# Altium schematic symbol library IC USB.SchLib: 34 symbols
Pins are listed as number, name and electrical type; pins without a type are passive.

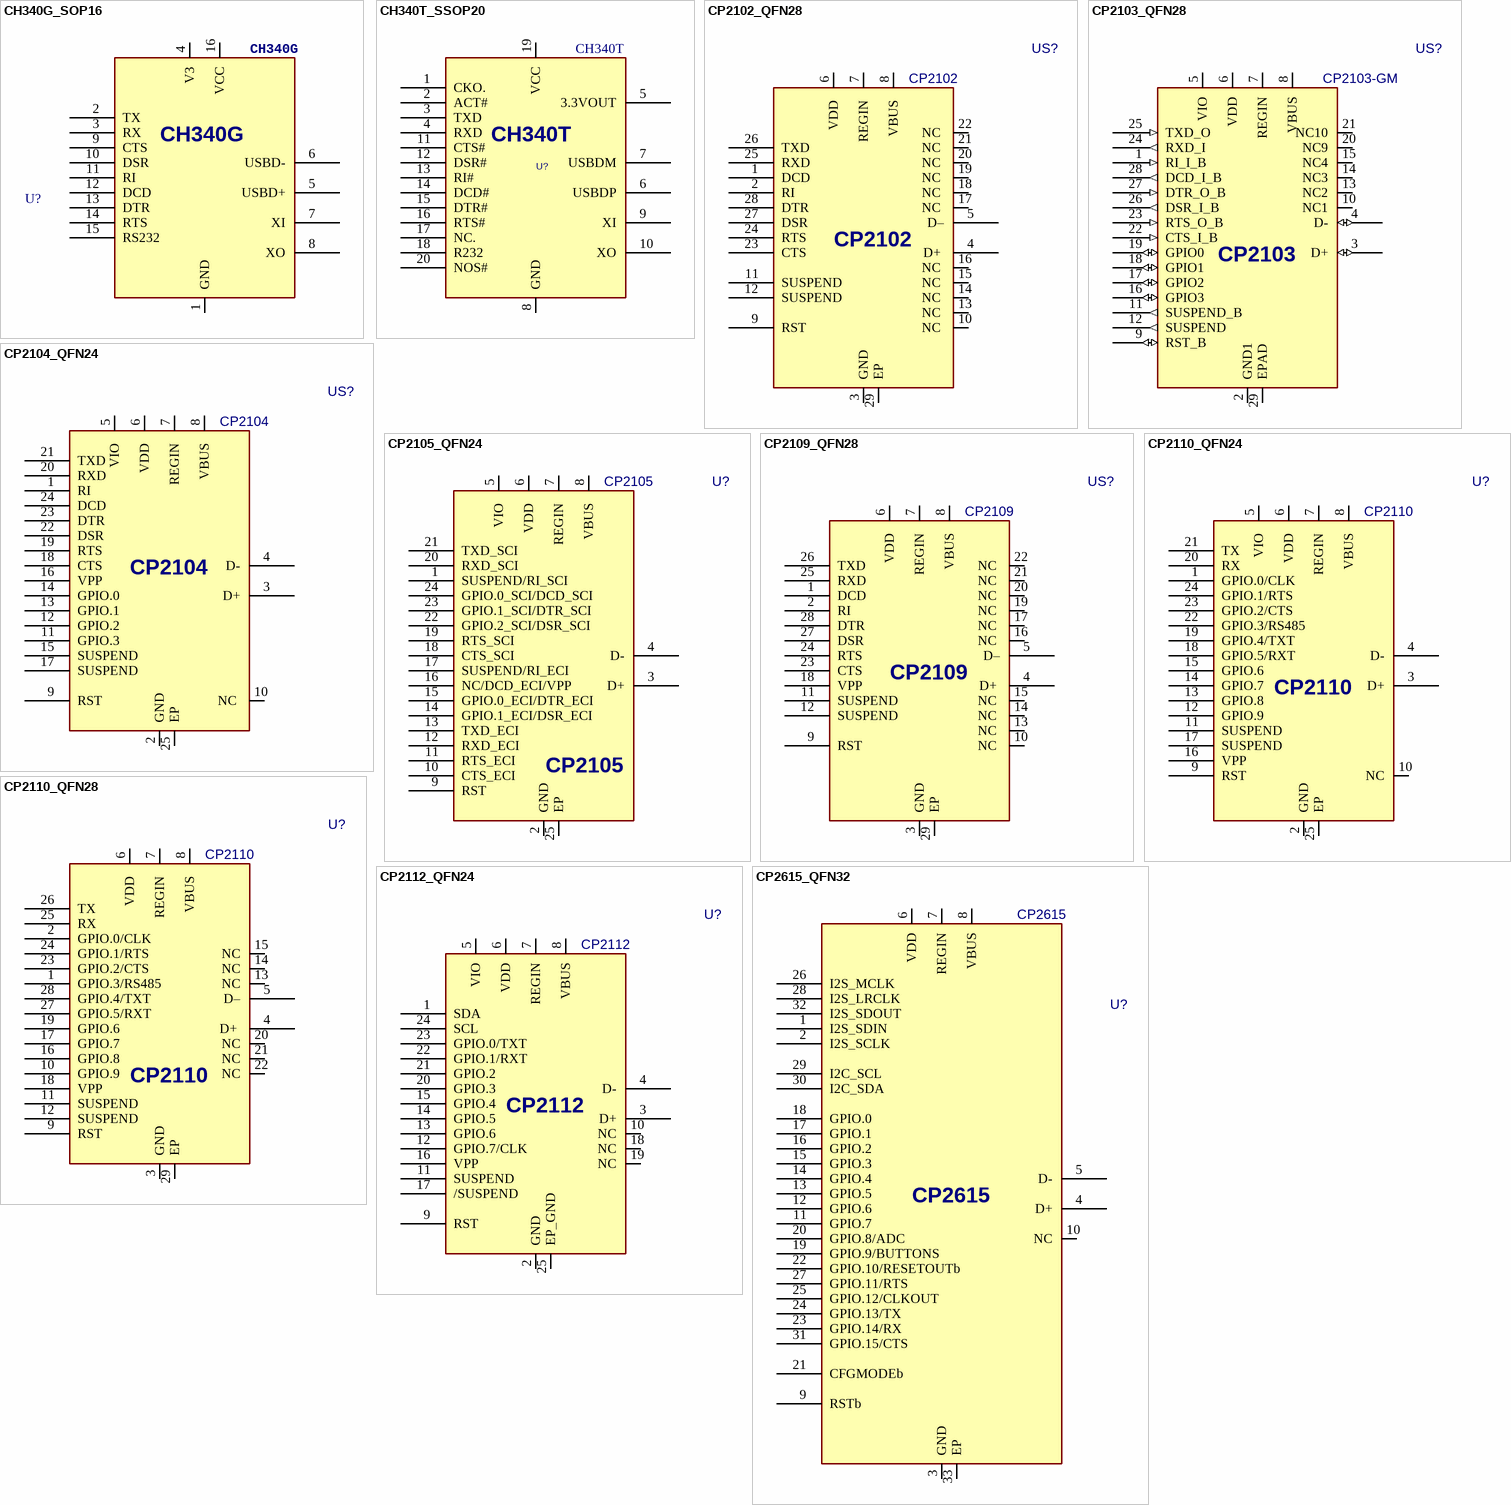
[diagram p0: symbols CH340G_SOP16 to CP2615_QFN32]

## CH340G_SOP16
designator U?, comment CH340G
USB-UART; MANF_P#: CH340G; VALUE: CH340G
footprint SO_16
pins: 1 GND, 2 TX, 3 RX, 4 V3, 5 USBD+, 6 USBD-, 7 XI, 8 XO, 9 CTS, 10 DSR, 11 RI, 12 DCD, 13 DTR, 14 RTS, 15 RS232, 16 VCC

## CH340T_SSOP20
designator U?, comment CH340T
USB-UART; MANF: CHINA; MANF_P#: CH340T; VALUE: CH340T
footprint SOG65_20_W
pins: 1 CKO., 2 ACT#, 3 TXD, 4 RXD, 5 3.3VOUT, 6 USBDP, 7 USBDM, 8 GND, 9 XI, 10 XO, 11 CTS#, 12 DSR#, 13 RI#, 14 DCD#, 15 DTR#, 16 RTS#, 17 NC., 18 R232, 19 VCC, 20 NOS#

## CP2102_QFN28
designator US?, comment CP2102
USB-UART BRIDGE; MANF: SILICON LABS; DESC: DESCRIPTION; PARAM2: 3.3V; MANF: MANF; ASSEMBLY: ASSEMBLY; PRICE: PRICE; MANF_P#: CP2102; VALUE: CP2102
footprint QFN50_28T (QFN, 28, 5X5mm, 0.5mm)
pins: 1 DCD , 2 RI , 3 GND , 4 D+ , 5 D–, 6 VDD , 7 REGIN , 8 VBUS , 9 RST , 10 NC , 11 SUSPEND , 12 SUSPEND , 13 NC , 14 NC , 15 NC , 16 NC , 17 NC , 18 NC , 19 NC , 20 NC , 21 NC , 22 NC , 23 CTS , 24 RTS , 25 RXD , 26 TXD , 27 DSR , 28 DTR , 29 EP

## CP2103_QFN28
designator US?, comment CP2103-GM
USB-UART BRIDGE; MANF: SILICON LABS; DESC: DESCRIPTION; PARAM2: 3.3V; MANF: MANF; ASSEMBLY: ASSEMBLY; PRICE: PRICE; MANF_P#: CP2103-GM; VALUE: CP2103-GM
footprint QFN50_28T (QFN, 28, 5X5mm, 0.5mm)
pins: 1 RI_I_B (in), 2 GND1 (power), 3 D+ (io), 4 D- (io), 5 VIO (power), 6 VDD (power), 7 REGIN, 8 VBUS, 9 RST_B (io), 10 NC1, 11 SUSPEND_B (out), 12 SUSPEND (out), 13 NC2, 14 NC3, 15 NC4, 16 GPIO3 (io), 17 GPIO2 (io), 18 GPIO1 (io), 19 GPIO0 (io), 20 NC9, 21 NC10, 22 CTS_I_B (in), 23 RTS_O_B (in), 24 RXD_I (out), 25 TXD_O (in), 26 DSR_I_B (out), 27 DTR_O_B (in), 28 DCD_I_B (out), 29 EPAD (power)
text: CP2103

## CP2104_QFN24
designator US?, comment CP2104
USB-UART BRIDGE; MANF: SILICON LABS; DESC: DESCRIPTION; MANF_P#: CP2104-F03-GM; PARAM2: 3.3V; ASSEMBLY: ASSEMBLY; PRICE: 1.8$; VALUE: CP2104
footprint QFN50_24T (MO-220 (JEDEC), RGE S-PQFP-N24 (TI), 4X4mm, 0.5mm, HVQFN24)
pins: 1 RI , 2 GND , 3 D+, 4 D-, 5 VIO , 6 VDD , 7 REGIN , 8 VBUS , 9 RST , 10 NC , 11 GPIO.3 , 12 GPIO.2 , 13 GPIO.1 , 14 GPIO.0 , 15 SUSPEND , 16 VPP , 17 SUSPEND , 18 CTS , 19 RTS , 20 RXD , 21 TXD , 22 DSR , 23 DTR , 24 DCD , 25 EP

## CP2105_QFN24
designator U?, comment CP2105
USB-UART BRIDGE, DUAL; MANF: SILICON LABS; DESC: DESCRIPTION; MANF_P#: CP2105-F01-GM; PARAM2: 3.3VDD, VIO: 1.8~VDD; ASSEMBLY: ASSEMBLY; PRICE: 1.9$; VALUE: CP2105
footprint QFN50_24T (MO-220 (JEDEC), RGE S-PQFP-N24 (TI), 4X4mm, 0.5mm, HVQFN24)
pins: 1 SUSPEND/RI_SCI, 2 GND , 3 D+, 4 D-, 5 VIO , 6 VDD , 7 REGIN , 8 VBUS , 9 RST , 10 CTS_ECI, 11 RTS_ECI, 12 RXD_ECI, 13 TXD_ECI, 14 GPIO.1_ECI/DSR_ECI, 15 GPIO.0_ECI/DTR_ECI, 16 NC/DCD_ECI/VPP, 17 SUSPEND/RI_ECI, 18 CTS_SCI, 19 RTS_SCI, 20 RXD_SCI, 21 TXD_SCI, 22 GPIO.2_SCI/DSR_SCI, 23 GPIO.1_SCI/DTR_SCI, 24 GPIO.0_SCI/DCD_SCI, 25 EP

## CP2109_QFN28
designator US?, comment CP2109
USB-UART BRIDGE; MANF: SILICON LABS; DESC: DESCRIPTION; PARAM2: 3.3V; MANF: MANF; ASSEMBLY: ASSEMBLY; PRICE: PRICE; MANF_P#: CP2109; VALUE: CP2109
footprint QFN50_28T (QFN, 28, 5X5mm, 0.5mm)
pins: 1 DCD , 2 RI , 3 GND , 4 D+ , 5 D–, 6 VDD , 7 REGIN , 8 VBUS , 9 RST , 10 NC , 11 SUSPEND , 12 SUSPEND , 13 NC , 14 NC , 15 NC , 16 NC , 17 NC , 18 VPP, 19 NC , 20 NC , 21 NC , 22 NC , 23 CTS , 24 RTS , 25 RXD , 26 TXD , 27 DSR , 28 DTR , 29 EP

## CP2110_QFN24
designator U?, comment CP2110
USB-UART BRIDGE, DUAL; MANF: SILICON LABS; DESC: DESCRIPTION; MANF_P#: CP2110-F01-GM; PARAM2: 3.3VDD, VIO: 1.8~VDD; ASSEMBLY: ASSEMBLY; PRICE: 1.9$; VALUE: CP2110
footprint QFN50_24T (MO-220 (JEDEC), RGE S-PQFP-N24 (TI), 4X4mm, 0.5mm, HVQFN24)
pins: 1 GPIO.0/CLK, 2 GND , 3 D+, 4 D-, 5 VIO , 6 VDD , 7 REGIN , 8 VBUS , 9 RST, 10 NC, 11 SUSPEND, 12 GPIO.9, 13 GPIO.8, 14 GPIO.7, 15 GPIO.6, 16 VPP, 17 SUSPEND, 18 GPIO.5/RXT, 19 GPIO.4/TXT, 20 RX, 21 TX, 22 GPIO.3/RS485, 23 GPIO.2/CTS, 24 GPIO.1/RTS, 25 EP

## CP2110_QFN28
designator U?, comment CP2110
USB-UART BRIDGE; MANF: SILICON LABS; DESC: DESCRIPTION; MANF_P#: CP2110-F02-GM1; PARAM2: 3.3V; MANF: MANF; ASSEMBLY: ASSEMBLY; PRICE: 1.9$; VALUE: CP2110
footprint QFN50_28T (QFN, 28, 5X5mm, 0.5mm)
pins: 1 GPIO.3/RS485, 2 GPIO.0/CLK, 3 GND , 4 D+ , 5 D–, 6 VDD , 7 REGIN , 8 VBUS , 9 RST, 10 GPIO.9, 11 SUSPEND, 12 SUSPEND, 13 NC, 14 NC, 15 NC, 16 GPIO.8, 17 GPIO.7, 18 VPP, 19 GPIO.6, 20 NC, 21 NC, 22 NC, 23 GPIO.2/CTS, 24 GPIO.1/RTS, 25 RX, 26 TX, 27 GPIO.5/RXT, 28 GPIO.4/TXT, 29 EP

## CP2112_QFN24
designator U?, comment CP2112
USB-SMBUS BRIDGE, USB2.0 12Mbps; MANF: SILICON LABS; DESC: DESCRIPTION; MANF_P#: CP2112-F03-GM; PARAM2: 3.3V; MANF: MANF; ASSEMBLY: ASSEMBLY; PRICE: 1.9$; VALUE: CP2112
footprint QFN50_24T (MO-220 (JEDEC), RGE S-PQFP-N24 (TI), 4X4mm, 0.5mm, HVQFN24)
pins: 1 SDA, 2 GND, 3 D+, 4 D-, 5 VIO, 6 VDD, 7 REGIN, 8 VBUS, 9 RST, 10 NC, 11 SUSPEND, 12 GPIO.7/CLK, 13 GPIO.6, 14 GPIO.5, 15 GPIO.4, 16 VPP, 17 /SUSPEND, 18 NC, 19 NC, 20 GPIO.3, 21 GPIO.2, 22 GPIO.1/RXT, 23 GPIO.0/TXT, 24 SCL, 25 EP_GND

## CP2615_QFN32
designator U?, comment CP2615
USB-I2S BRIDGE, HID, 48KHz, 16bit/24bit stereo; MANF: SILICON LABS; DESC: DESCRIPTION; MANF_P#: CP2615-A01-GM; PARAM2: 3.3V; MANF: MANF; ASSEMBLY: ASSEMBLY; PRICE: 4.2$; VALUE: CP2615
footprint QFN50_32T (QFN, 32, 5X5mm, 0.5mm)
pins: 1 I2S_SDIN, 2 I2S_SCLK, 3 GND, 4 D+, 5 D-, 6 VDD, 7 REGIN, 8 VBUS, 9 RSTb, 10 NC, 11 GPIO.7, 12 GPIO.6, 13 GPIO.5, 14 GPIO.4, 15 GPIO.3, 16 GPIO.2, 17 GPIO.1, 18 GPIO.0, 19 GPIO.9/BUTTONS, 20 GPIO.8/ADC, 21 CFGMODEb, 22 GPIO.10/RESETOUTb, 23 GPIO.14/RX, 24 GPIO.13/TX, 25 GPIO.12/CLKOUT, 26 I2S_MCLK, 27 GPIO.11/RTS, 28 I2S_LRCLK, 29 I2C_SCL, 30 I2C_SDA, 31 GPIO.15/CTS, 32 I2S_SDOUT, 33 EP

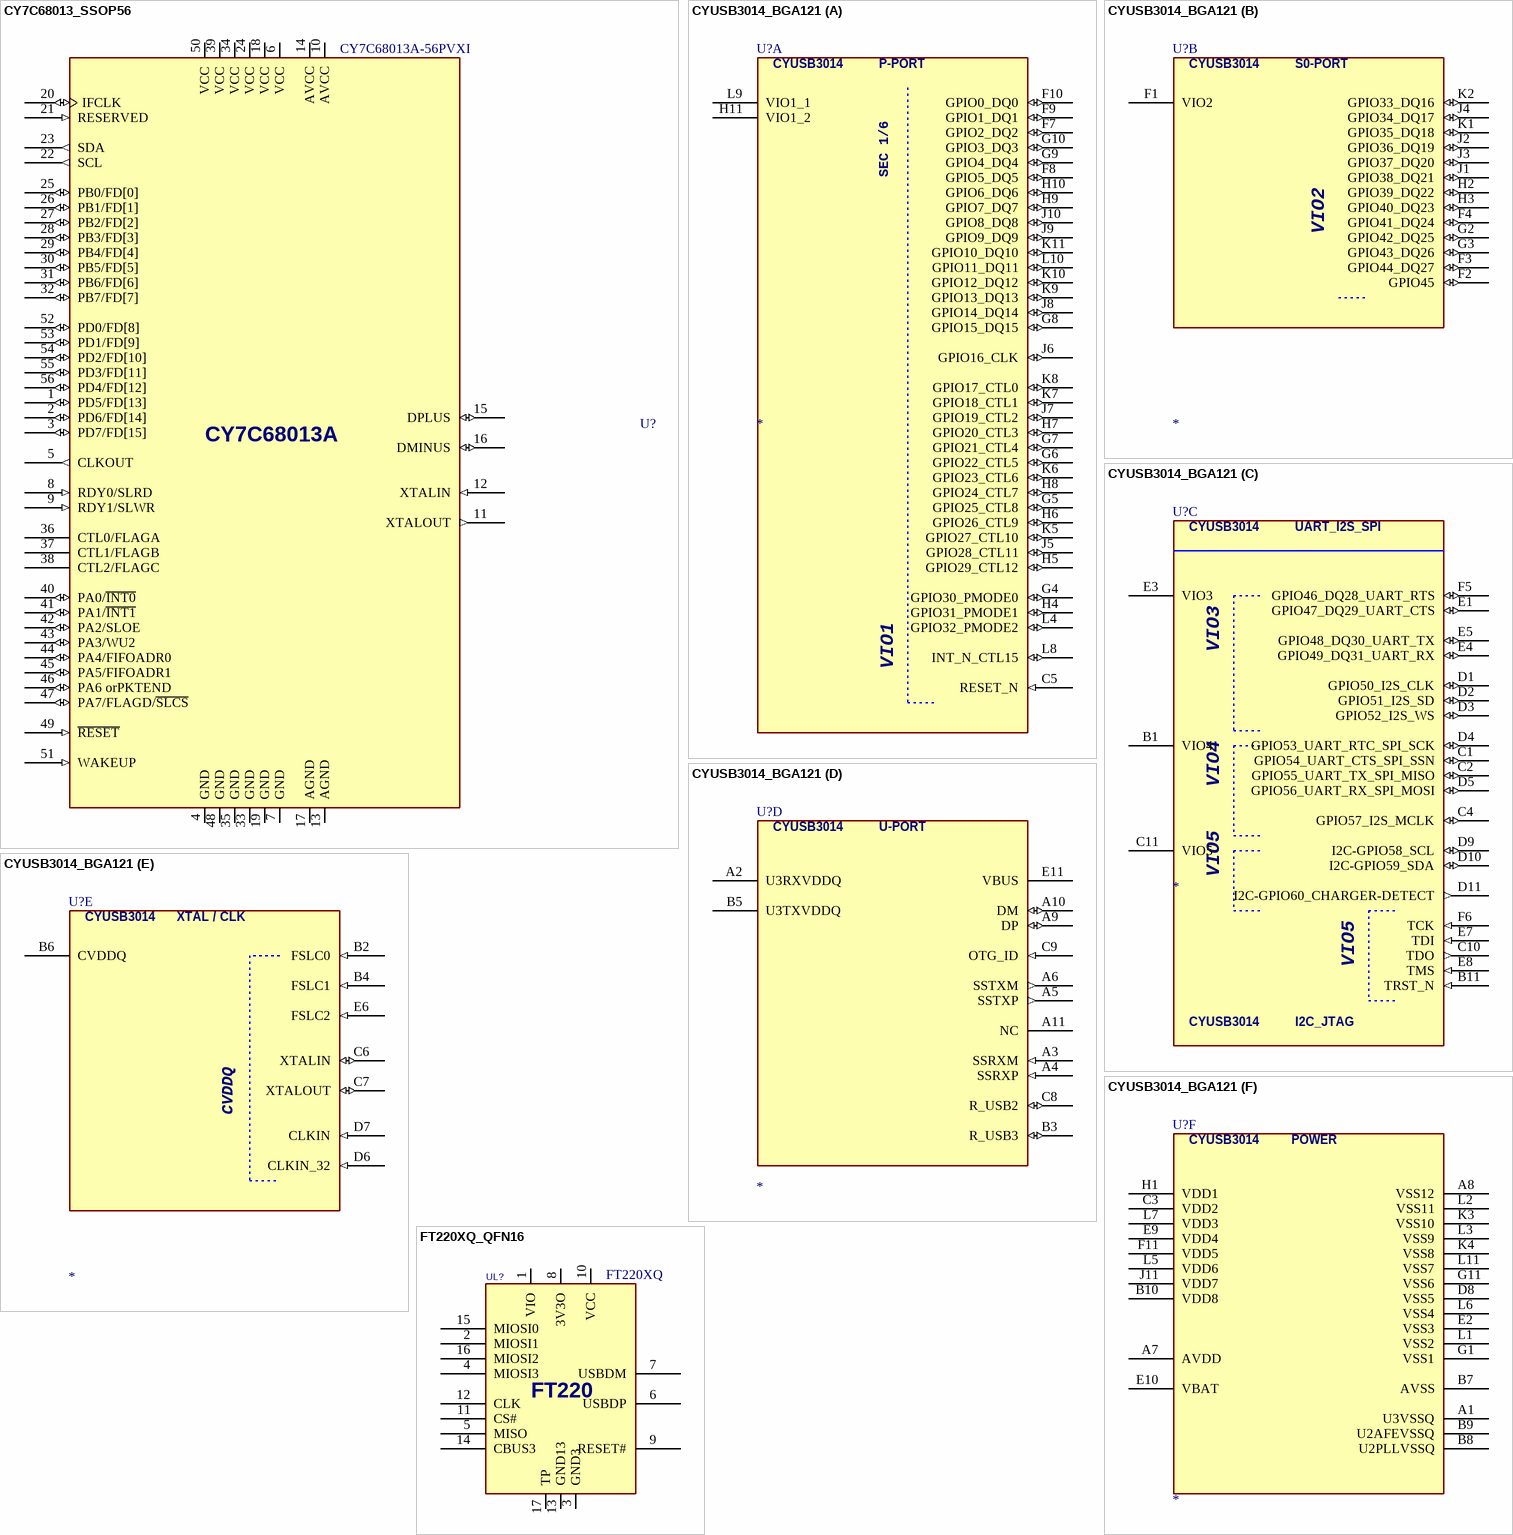
[diagram p1: symbols CY7C68013_SSOP56 to FT220XQ_QFN16]

## CY7C68013_SSOP56
designator U?, comment CY7C68013A-56PVXI
USB2.0, Microcontroller EZ-USB FX2LP,16K RAM, 24 I/Os, 56-Pin SSOP; MANF: Cypress; MANF_P#: CY7C68013A-56PVXI; VALUE: CY7C68013A-56PVXI
footprint SOG63_56 (SSOP 56Lead, pitch: 0.635, 18.5x7.5x2.8mm)
pins: 1 PD5/FD[13] (io) "Port D", 2 PD6/FD[14] (io) "Port D", 3 PD7/FD[15] (io) "Port D", 4 GND (power), 5 CLKOUT (out), 6 VCC (power), 7 GND (power), 8 RDY0/SLRD (in), 9 RDY1/SLWR (in), 10 AVCC (power), 11 XTALOUT (out), 12 XTALIN (in), 13 AGND (power), 14 AVCC (power), 15 DPLUS (io), 16 DMINUS (io), 17 AGND (power), 18 VCC (power), 19 GND (power), 20 IFCLK (io), 21 RESERVED (in), 22 SCL (out), 23 SDA (out), 24 VCC (power), 25 PB0/FD[0] (io) "Port B", 26 PB1/FD[1] (io) "Port B", 27 PB2/FD[2] (io) "Port B", 28 PB3/FD[3] (io) "Port B", 29 PB4/FD[4] (io) "Port B", 30 PB5/FD[5] (io) "Port B", 31 PB6/FD[6] (io) "Port B", 32 PB7/FD[7] (io) "Port B", 33 GND (power), 34 VCC (power), 35 GND (power), 36 CTL0/FLAGA, 37 CTL1/FLAGB, 38 CTL2/FLAGC, 39 VCC (power), 40 PA0/~{INT0} (io) "Port A", 41 PA1/~{INT1} (io) "Port A", 42 PA2/SLOE (io) "Port A", 43 PA3/WU2 (io) "Port A", 44 PA4/FIFOADR0 (io) "Port A", 45 PA5/FIFOADR1 (io) "Port A", 46 PA6 orPKTEND (io) "Port A", 47 PA7/FLAGD/~{SLCS} (io) "Port A", 48 GND (power), 49 ~{RESET} (in), 50 VCC (power), 51 WAKEUP (in), 52 PD0/FD[8] (io) "Port D", 53 PD1/FD[9] (io) "Port D", 54 PD2/FD[10] (io) "Port D", 55 PD3/FD[11] (io) "Port D", 56 PD4/FD[12] (io) "Port D"
text: CY7C68013A

## CYUSB3014_BGA121
designator U?
USB3.0, Microcontroller EZ-USB FX3, BGA121; MANF: Cypress; MANF_P#: CYUSB3014A
footprint BGA80_121_S10 (BGA, 121-Leads, Body 10x10mm,  Pitch 0.80mm)
part A pins: C5 RESET_N (in), F7 GPIO2_DQ2 (io), F8 GPIO5_DQ5 (io), F9 GPIO1_DQ1 (io), F10 GPIO0_DQ0 (io), G4 GPIO30_PMODE0 (io), G5 GPIO25_CTL8 (io), G6 GPIO22_CTL5 (io), G7 GPIO21_CTL4 (io), G8 GPIO15_DQ15 (io), G9 GPIO4_DQ4 (io), G10 GPIO3_DQ3 (io), H4 GPIO31_PMODE1 (io), H5 GPIO29_CTL12 (io), H6 GPIO26_CTL9 (io), H7 GPIO20_CTL3 (io), H8 GPIO24_CTL7 (io), H9 GPIO7_DQ7 (io), H10 GPIO6_DQ6 (io), H11 VIO1_2 (power), J5 GPIO28_CTL11 (io), J6 GPIO16_CLK (io), J7 GPIO19_CTL2 (io), J8 GPIO14_DQ14 (io), J9 GPIO9_DQ9 (io), J10 GPIO8_DQ8 (io), K5 GPIO27_CTL10 (io), K6 GPIO23_CTL6 (io), K7 GPIO18_CTL1 (io), K8 GPIO17_CTL0 (io), K9 GPIO13_DQ13 (io), K10 GPIO12_DQ12 (io), K11 GPIO10_DQ10 (io), L4 GPIO32_PMODE2 (io), L8 INT_N_CTL15 (io), L9 VIO1_1 (power), L10 GPIO11_DQ11 (io)
part B pins: F1 VIO2 (power), F2 GPIO45 (io), F3 GPIO44_DQ27 (io), F4 GPIO41_DQ24 (io), G2 GPIO42_DQ25 (io), G3 GPIO43_DQ26 (io), H2 GPIO39_DQ22 (io), H3 GPIO40_DQ23 (io), J1 GPIO38_DQ21 (io), J2 GPIO36_DQ19 (io), J3 GPIO37_DQ20 (io), J4 GPIO34_DQ17 (io), K1 GPIO35_DQ18 (io), K2 GPIO33_DQ16 (io)
part C pins: B1 VIO4 (power), B11 TRST_N (in), C1 GPIO54_UART_CTS_SPI_SSN (io), C2 GPIO55_UART_TX_SPI_MISO (io), C4 GPIO57_I2S_MCLK (io), C10 TDO (out), C11 VIO5 (power), D1 GPIO50_I2S_CLK (io), D2 GPIO51_I2S_SD (io), D3 GPIO52_I2S_WS (io), D4 GPIO53_UART_RTC_SPI_SCK (io), D5 GPIO56_UART_RX_SPI_MOSI (io), D9 I2C-GPIO58_SCL (io), D10 I2C-GPIO59_SDA (io), D11 I2C-GPIO60_CHARGER-DETECT (out), E1 GPIO47_DQ29_UART_CTS (io), E3 VIO3 (power), E4 GPIO49_DQ31_UART_RX (io), E5 GPIO48_DQ30_UART_TX (io), E7 TDI (in), E8 TMS (in), F5 GPIO46_DQ28_UART_RTS (io), F6 TCK (in)
part D pins: A2 U3RXVDDQ (power), A3 SSRXM (in), A4 SSRXP (in), A5 SSTXP (out), A6 SSTXM (out), A9 DP (io), A10 DM (io), A11 NC, B3 R_USB3 (io), B5 U3TXVDDQ (power), C8 R_USB2 (io), C9 OTG_ID (in), E11 VBUS (power)
part E pins: B2 FSLC0 (in), B4 FSLC1 (in), B6 CVDDQ (power), C6 XTALIN (io), C7 XTALOUT (io), D6 CLKIN_32 (in), D7 CLKIN (in), E6 FSLC2 (in)
part F pins: A1 U3VSSQ (power), A7 AVDD (power), A8 VSS12 (power), B7 AVSS (power), B8 U2PLLVSSQ (power), B9 U2AFEVSSQ (power), B10 VDD8 (power), C3 VDD2 (power), D8 VSS5 (power), E2 VSS3 (power), E9 VDD4 (power), E10 VBAT (power), F11 VDD5 (power), G1 VSS1 (power), G11 VSS6 (power), H1 VDD1 (power), J11 VDD7 (power), K3 VSS10 (power), K4 VSS8 (power), L1 VSS2 (power), L2 VSS11 (power), L3 VSS9 (power), L5 VDD6 (power), L6 VSS4 (power), L7 VDD3 (power), L11 VSS7 (power)
part A text: CYUSB3014          P-PORT; SEC 1/6; VIO1
part B text: CYUSB3014          S0-PORT; SEC 2/6
part C text: CYUSB3014          UART_I2S_SPI; SEC 3/6; CYUSB3014          I2C_JTAG
part D text: CYUSB3014          U-PORT; SEC 4/6; VBUS/
part E text: CYUSB3014      XTAL / CLK; SEC 5/6
part F text: CYUSB3014         POWER; SEC 6/6

## FT220XQ_QFN16
designator UL?, comment FT220XQ
USB, SPI, 4-BIT; MANF: FTDI; MANF_P#: FT220XQ; VALUE: FT220XQ
footprint QFN65_16T (MO-220 VGGC, MO-220 WGGC-4(JEDEC), 4X4mm, 0.65mm)
pins: 1 VIO, 2 MIOSI1, 3 GND3, 4 MIOSI3, 5 MISO, 6 USBDP, 7 USBDM, 8 3V3O, 9 RESET#, 10 VCC (power), 11 CS#, 12 CLK, 13 GND13 (power), 14 CBUS3, 15 MIOSI0, 16 MIOSI2, 17 TP
text: FT220

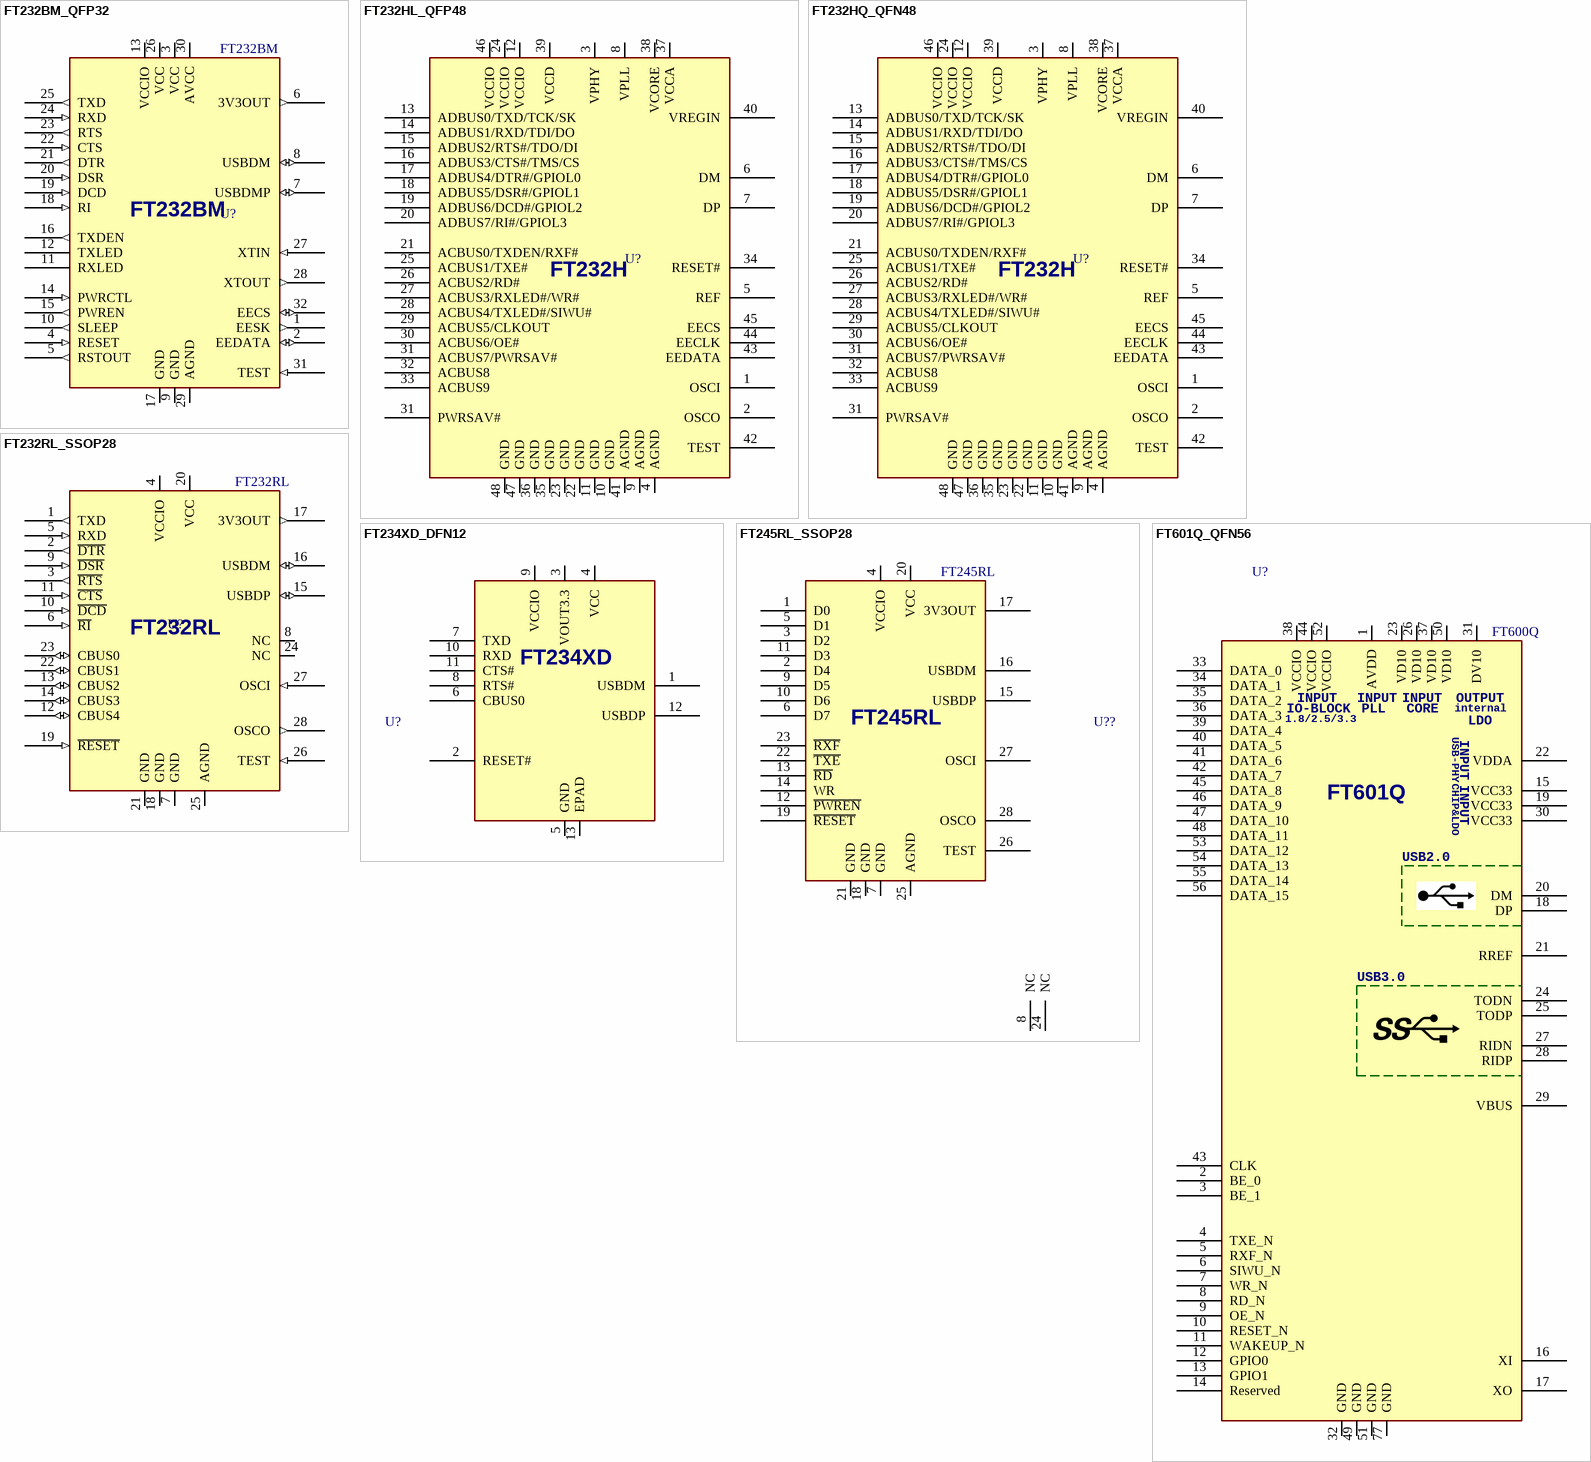
[diagram p2: symbols FT232BM_QFP32 to FT601Q_QFN56]

## FT232BM_QFP32
designator U?, comment FT232BM
USB-UART; MANF: FTDI; MANF_P#: FT232BM; VALUE: FT232BM
footprint QFG80_32 (TQFP32, A32 (Cypress), GP32 (Zarlink), MS-026ABA(JEDEC), 7X7mm, 0.8mm)
pins: 1 EESK (out), 2 EEDATA (io), 3 VCC (power), 4 RESET (in), 5 RSTOUT (out), 6 3V3OUT (out), 7 USBDMP (io), 8 USBDM (io), 9 GND (power), 10 SLEEP (out), 11 RXLED (oc), 12 TXLED (oc), 13 VCCIO (power), 14 PWRCTL (in), 15 PWREN (out), 16 TXDEN (out), 17 GND (power), 18 RI (in), 19 DCD (in), 20 DSR (in), 21 DTR (out), 22 CTS (in), 23 RTS (out), 24 RXD (in), 25 TXD (out), 26 VCC (power), 27 XTIN (in), 28 XTOUT (out), 29 AGND (power), 30 AVCC (power), 31 TEST (in), 32 EECS (io)

## FT232HL_QFP48
designator U?, comment FT232H  (value not drawn)
USB, Multipurpose UART/FIFO, USB High Speed; MANF: FTDI; MANF_P#: FT232HL; PARAM2: 3.3VIO; PRICE: 4.2$; VALUE: FT232H
footprint QFG50_48 (LQFP48, PQFF, PQFG, TSQFP, 48-Leads, Body 7.00x7.00mm, Pitch 0.50mm)
pins: 1 OSCI, 2 OSCO, 3 VPHY, 4 AGND, 5 REF, 6 DM, 7 DP, 8 VPLL, 9 AGND, 10 GND, 11 GND, 12 VCCIO, 13 ADBUS0/TXD/TCK/SK, 14 ADBUS1/RXD/TDI/DO, 15 ADBUS2/RTS#/TDO/DI, 16 ADBUS3/CTS#/TMS/CS, 17 ADBUS4/DTR#/GPIOL0, 18 ADBUS5/DSR#/GPIOL1, 19 ADBUS6/DCD#/GPIOL2, 20 ADBUS7/RI#/GPIOL3, 21 ACBUS0/TXDEN/RXF#, 22 GND, 23 GND, 24 VCCIO, 25 ACBUS1/TXE#, 26 ACBUS2/RD#, 27 ACBUS3/RXLED#/WR#, 28 ACBUS4/TXLED#/SIWU#, 29 ACBUS5/CLKOUT, 30 ACBUS6/OE#, 31 ACBUS7/PWRSAV#, 31 PWRSAV#, 32 ACBUS8, 33 ACBUS9, 34 RESET#, 35 GND, 36 GND, 37 VCCA, 38 VCORE, 39 VCCD, 40 VREGIN, 41 AGND, 42 TEST, 43 EEDATA, 44 EECLK, 45 EECS, 46 VCCIO, 47 GND, 48 GND

## FT232HQ_QFN48
designator U?, comment FT232H  (value not drawn)
USB, Multipurpose UART/FIFO, USB High Speed; MANF: FTDI; MANF_P#: FT232HQ; PARAM2: 3.3VIO; PRICE: 4.2$; VALUE: FT232H
footprint QFN50_48T_8X8 (QFN-48 pitch:0.5mm, 8X8mm, FT232HQ)
pins: 1 OSCI, 2 OSCO, 3 VPHY, 4 AGND, 5 REF, 6 DM, 7 DP, 8 VPLL, 9 AGND, 10 GND, 11 GND, 12 VCCIO, 13 ADBUS0/TXD/TCK/SK, 14 ADBUS1/RXD/TDI/DO, 15 ADBUS2/RTS#/TDO/DI, 16 ADBUS3/CTS#/TMS/CS, 17 ADBUS4/DTR#/GPIOL0, 18 ADBUS5/DSR#/GPIOL1, 19 ADBUS6/DCD#/GPIOL2, 20 ADBUS7/RI#/GPIOL3, 21 ACBUS0/TXDEN/RXF#, 22 GND, 23 GND, 24 VCCIO, 25 ACBUS1/TXE#, 26 ACBUS2/RD#, 27 ACBUS3/RXLED#/WR#, 28 ACBUS4/TXLED#/SIWU#, 29 ACBUS5/CLKOUT, 30 ACBUS6/OE#, 31 ACBUS7/PWRSAV#, 31 PWRSAV#, 32 ACBUS8, 33 ACBUS9, 34 RESET#, 35 GND, 36 GND, 37 VCCA, 38 VCORE, 39 VCCD, 40 VREGIN, 41 AGND, 42 TEST, 43 EEDATA, 44 EECLK, 45 EECS, 46 VCCIO, 47 GND, 48 GND

## FT232RL_SSOP28
designator U?, comment FT232RL
USB-UART, Asynchronous Serial Data Transfer Chip, SSOP-28; MANF: FTDI; PARAM2: 3.3~5.25Vcc, 1.8~5.25VIO; MANF_P#: FT232RL; VALUE: FT232RL
footprint SOG65_28_W (SOP, 28-Leads, Body 10.6x5.6mm (max), Pitch 0.65mm)
pins: 1 TXD (out), 2 ~{DTR} (out), 3 ~{RTS} (out), 4 VCCIO (power), 5 RXD (in), 6 ~{RI} (in), 7 GND (power), 8 NC, 9 ~{DSR} (in), 10 ~{DCD} (in), 11 ~{CTS} (in), 12 CBUS4 (io), 13 CBUS2 (io), 14 CBUS3 (io), 15 USBDP (io), 16 USBDM (io), 17 3V3OUT (out), 18 GND (power), 19 ~{RESET} (in), 20 VCC (power), 21 GND (power), 22 CBUS1 (io), 23 CBUS0 (io), 24 NC, 25 AGND (power), 26 TEST (in), 27 OSCI (in), 28 OSCO (out)

## FT234XD_DFN12
designator U?, comment FT234XD  (value not drawn)
USB-UART; MANF: FTDI; PARAM: -40~85oC; PARAM2: 5V/3.3V, 1.8~3.3VIO; MANF_P#: FT234XD; PRICE: 2$; VALUE: FT234XD
footprint SON45_12T (DFN, 12, 3X3mm, ptich: 0.45mm)
pins: 1 USBDM, 2 RESET#, 3 VOUT3.3, 4 VCC, 5 GND, 6 CBUS0, 7 TXD, 8 RTS#, 9 VCCIO, 10 RXD, 11 CTS#, 12 USBDP, 13 EPAD

## FT245RL_SSOP28
designator U??, comment FT245RL
USB2.0-FIFO 8-BIT, FT245RL TSSOP28; MANF: FTDI; MANF_P#: FT245RL; VALUE: FT245RL
footprint SOG65_28_W (SOP, 28-Leads, Body 10.6x5.6mm (max), Pitch 0.65mm)
pins: 1 D0, 2 D4, 3 D2, 4 VCCIO, 5 D1, 6 D7, 7 GND, 8 NC hidden, 9 D5, 10 D6, 11 D3, 12 ~{PWREN}, 13 ~{RD}, 14 WR, 15 USBDP, 16 USBDM, 17 3V3OUT, 18 GND, 19 ~{RESET}, 20 VCC, 21 GND, 22 ~{TXE}, 23 ~{RXF}, 24 NC hidden, 25 AGND, 26 TEST, 27 OSCI, 28 OSCO
1 alternate drawing of the same symbol

## FT601Q_QFN56
designator U?, comment FT600Q
USB3.0-FIFO 16-BIT, 160Mbyte/s; MANF: FTDI; MANF_P#: FT600Q-x; PARAM2: 3.3VCC, 1.8/2.5/3.3VIO; PRICE: 1= 10$; DESC: DESC; VALUE: FT600Q
footprint QFN40_76T (QFN, 76-Leads, Body 9.00x9.00mm, Pitch 0.40mm, Thermal Pad 5.50x5.50mm)
pins: 1 AVDD, 2 BE_0, 3 BE_1, 4 TXE_N, 5 RXF_N, 6 SIWU_N, 7 WR_N, 8 RD_N, 9 OE_N, 10 RESET_N, 11 WAKEUP_N, 12 GPIO0, 13 GPIO1, 14 Reserved, 15 VCC33, 16 XI, 17 XO, 18 DP, 19 VCC33, 20 DM, 21 RREF, 22 VDDA, 23 VD10, 24 TODN, 25 TODP, 26 VD10, 27 RIDN, 28 RIDP, 29 VBUS, 30 VCC33, 31 DV10, 32 GND, 33 DATA_0, 34 DATA_1, 35 DATA_2, 36 DATA_3, 37 VD10, 38 VCCIO, 39 DATA_4, 40 DATA_5, 41 DATA_6, 42 DATA_7, 43 CLK, 44 VCCIO, 45 DATA_8, 46 DATA_9, 47 DATA_10, 48 DATA_11, 49 GND, 50 VD10, 51 GND, 52 VCCIO, 53 DATA_12, 54 DATA_13, 55 DATA_14, 56 DATA_15, 77 GND
text: INPUT; OUTPUT; IO-BLOCK; PLL; CORE; internal; 1.8/2.5/3.3; LDO; USB-PHY; CHIP&LDO; FT601Q; USB2.0; USB3.0

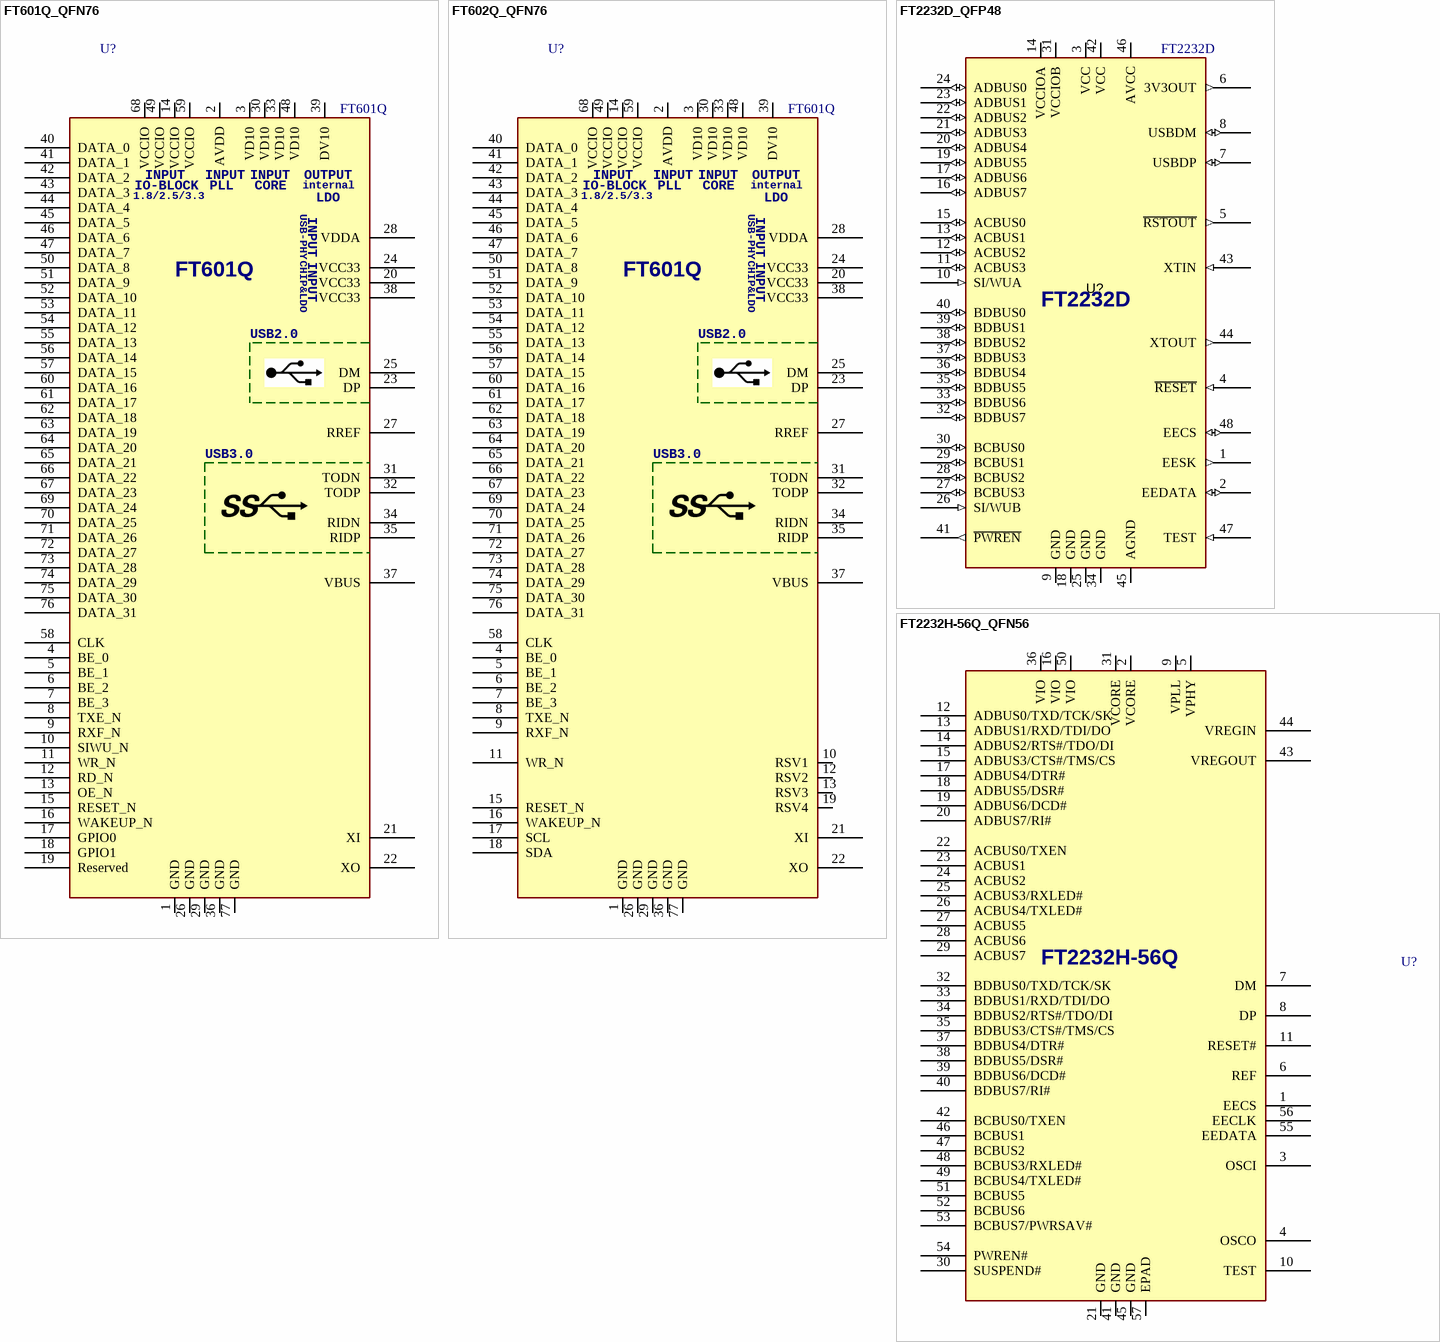
[diagram p3: symbols FT601Q_QFN76 to FT2232H-56Q_QFN56]

## FT601Q_QFN76
designator U?, comment FT601Q
USB3.0-FIFO 32-BIT, 320Mbyte/s; MANF: FTDI; MANF_P#: FT601Q-x; PARAM2: 3.3VCC, 1.8/2.5/3.3VIO; PRICE: 1= 10$; DESC: DESC; VALUE: FT601Q
footprint QFN40_76T (QFN, 76-Leads, Body 9.00x9.00mm, Pitch 0.40mm, Thermal Pad 5.50x5.50mm)
pins: 1 GND, 2 AVDD, 3 VD10, 4 BE_0, 5 BE_1, 6 BE_2, 7 BE_3, 8 TXE_N, 9 RXF_N, 10 SIWU_N, 11 WR_N, 12 RD_N, 13 OE_N, 14 VCCIO, 15 RESET_N, 16 WAKEUP_N, 17 GPIO0, 18 GPIO1, 19 Reserved, 20 VCC33, 21 XI, 22 XO, 23 DP, 24 VCC33, 25 DM, 26 GND, 27 RREF, 28 VDDA, 29 GND, 30 VD10, 31 TODN, 32 TODP, 33 VD10, 34 RIDN, 35 RIDP, 36 GND, 37 VBUS, 38 VCC33, 39 DV10, 40 DATA_0, 41 DATA_1, 42 DATA_2, 43 DATA_3, 44 DATA_4, 45 DATA_5, 46 DATA_6, 47 DATA_7, 48 VD10, 49 VCCIO, 50 DATA_8, 51 DATA_9, 52 DATA_10, 53 DATA_11, 54 DATA_12, 55 DATA_13, 56 DATA_14, 57 DATA_15, 58 CLK, 59 VCCIO, 60 DATA_16, 61 DATA_17, 62 DATA_18, 63 DATA_19, 64 DATA_20, 65 DATA_21, 66 DATA_22, 67 DATA_23, 68 VCCIO, 69 DATA_24, 70 DATA_25, 71 DATA_26, 72 DATA_27, 73 DATA_28, 74 DATA_29, 75 DATA_30, 76 DATA_31, 77 GND
text: INPUT; OUTPUT; IO-BLOCK; PLL; CORE; internal; 1.8/2.5/3.3; LDO; USB-PHY; CHIP&LDO; USB2.0; USB3.0

## FT602Q_QFN76
designator U?, comment FT601Q
USB3.0-FIFO 32-BIT; MANF: FTDI; MANF_P#: FT602Q-x; PARAM2: 3.3VCC, 1.8/2.5/3.3VIO; PRICE: 1= 10$; DESC: DESC; VALUE: FT601Q
footprint QFN40_76T (QFN, 76-Leads, Body 9.00x9.00mm, Pitch 0.40mm, Thermal Pad 5.50x5.50mm)
pins: 1 GND, 2 AVDD, 3 VD10, 4 BE_0, 5 BE_1, 6 BE_2, 7 BE_3, 8 TXE_N, 9 RXF_N, 10 RSV1, 11 WR_N, 12 RSV2, 13 RSV3, 14 VCCIO, 15 RESET_N, 16 WAKEUP_N, 17 SCL, 18 SDA, 19 RSV4, 20 VCC33, 21 XI, 22 XO, 23 DP, 24 VCC33, 25 DM, 26 GND, 27 RREF, 28 VDDA, 29 GND, 30 VD10, 31 TODN, 32 TODP, 33 VD10, 34 RIDN, 35 RIDP, 36 GND, 37 VBUS, 38 VCC33, 39 DV10, 40 DATA_0, 41 DATA_1, 42 DATA_2, 43 DATA_3, 44 DATA_4, 45 DATA_5, 46 DATA_6, 47 DATA_7, 48 VD10, 49 VCCIO, 50 DATA_8, 51 DATA_9, 52 DATA_10, 53 DATA_11, 54 DATA_12, 55 DATA_13, 56 DATA_14, 57 DATA_15, 58 CLK, 59 VCCIO, 60 DATA_16, 61 DATA_17, 62 DATA_18, 63 DATA_19, 64 DATA_20, 65 DATA_21, 66 DATA_22, 67 DATA_23, 68 VCCIO, 69 DATA_24, 70 DATA_25, 71 DATA_26, 72 DATA_27, 73 DATA_28, 74 DATA_29, 75 DATA_30, 76 DATA_31, 77 GND
text: INPUT; OUTPUT; IO-BLOCK; PLL; CORE; internal; 1.8/2.5/3.3; LDO; USB-PHY; CHIP&LDO; USB2.0; USB3.0

## FT2232D_QFP48
designator U?, comment FT2232D
USB, Dual, UART/FIFO Chip, LQFP-48; MANF: FTDI; PARAM2: 4.35~5.25V; MANF_P#: FT2232D; VALUE: FT2232D
footprint QFG50_48 (LQFP48, PQFF, PQFG, TSQFP, 48-Leads, Body 7.00x7.00mm, Pitch 0.50mm)
pins: 1 EESK (out), 2 EEDATA (io), 3 VCC (power), 4 ~{RESET} (in), 5 ~{RSTOUT} (out), 6 3V3OUT (out), 7 USBDP (io), 8 USBDM (io), 9 GND (power), 10 SI/WUA (in), 11 ACBUS3 (io), 12 ACBUS2 (io), 13 ACBUS1 (io), 14 VCCIOA (power), 15 ACBUS0 (io), 16 ADBUS7 (io), 17 ADBUS6 (io), 18 GND (power), 19 ADBUS5 (io), 20 ADBUS4 (io), 21 ADBUS3 (io), 22 ADBUS2 (io), 23 ADBUS1 (io), 24 ADBUS0 (io), 25 GND (power), 26 SI/WUB (in), 27 BCBUS3 (io), 28 BCBUS2 (io), 29 BCBUS1 (io), 30 BCBUS0 (io), 31 VCCIOB (power), 32 BDBUS7 (io), 33 BDBUS6 (io), 34 GND (power), 35 BDBUS5 (io), 36 BDBUS4 (io), 37 BDBUS3 (io), 38 BDBUS2 (io), 39 BDBUS1 (io), 40 BDBUS0 (io), 41 ~{PWREN} (out), 42 VCC (power), 43 XTIN (in), 44 XTOUT (out), 45 AGND (power), 46 AVCC (power), 47 TEST (in), 48 EECS (io)

## FT2232H-56Q_QFN56
designator U?, comment FT2232H-56  (value not drawn)
USB, DUAL, Multipurpose UART/FIFO, USB High Speed; MANF: FTDI; MANF_P#: FT2232H-56Q; PARAM2: 3.3V; VALUE: FT2232H-56
footprint QFN50_56T (QFN56, pitch: 0.5mm, 8x8mm)
pins: 1 EECS, 2 VCORE, 3 OSCI, 4 OSCO, 5 VPHY, 6 REF, 7 DM, 8 DP, 9 VPLL, 10 TEST, 11 RESET#, 12 ADBUS0/TXD/TCK/SK, 13 ADBUS1/RXD/TDI/DO, 14 ADBUS2/RTS#/TDO/DI, 15 ADBUS3/CTS#/TMS/CS, 16 VIO, 17 ADBUS4/DTR#, 18 ADBUS5/DSR#, 19 ADBUS6/DCD#, 20 ADBUS7/RI#, 21 GND, 22 ACBUS0/TXEN, 23 ACBUS1, 24 ACBUS2, 25 ACBUS3/RXLED#, 26 ACBUS4/TXLED#, 27 ACBUS5, 28 ACBUS6, 29 ACBUS7, 30 SUSPEND#, 31 VCORE, 32 BDBUS0/TXD/TCK/SK, 33 BDBUS1/RXD/TDI/DO, 34 BDBUS2/RTS#/TDO/DI, 35 BDBUS3/CTS#/TMS/CS, 36 VIO, 37 BDBUS4/DTR#, 38 BDBUS5/DSR#, 39 BDBUS6/DCD#, 40 BDBUS7/RI#, 41 GND, 42 BCBUS0/TXEN, 43 VREGOUT, 44 VREGIN, 45 GND, 46 BCBUS1, 47 BCBUS2, 48 BCBUS3/RXLED#, 49 BCBUS4/TXLED#, 50 VIO, 51 BCBUS5, 52 BCBUS6, 53 BCBUS7/PWRSAV#, 54 PWREN#, 55 EEDATA, 56 EECLK, 57 EPAD
2 alternate drawings of the same symbol

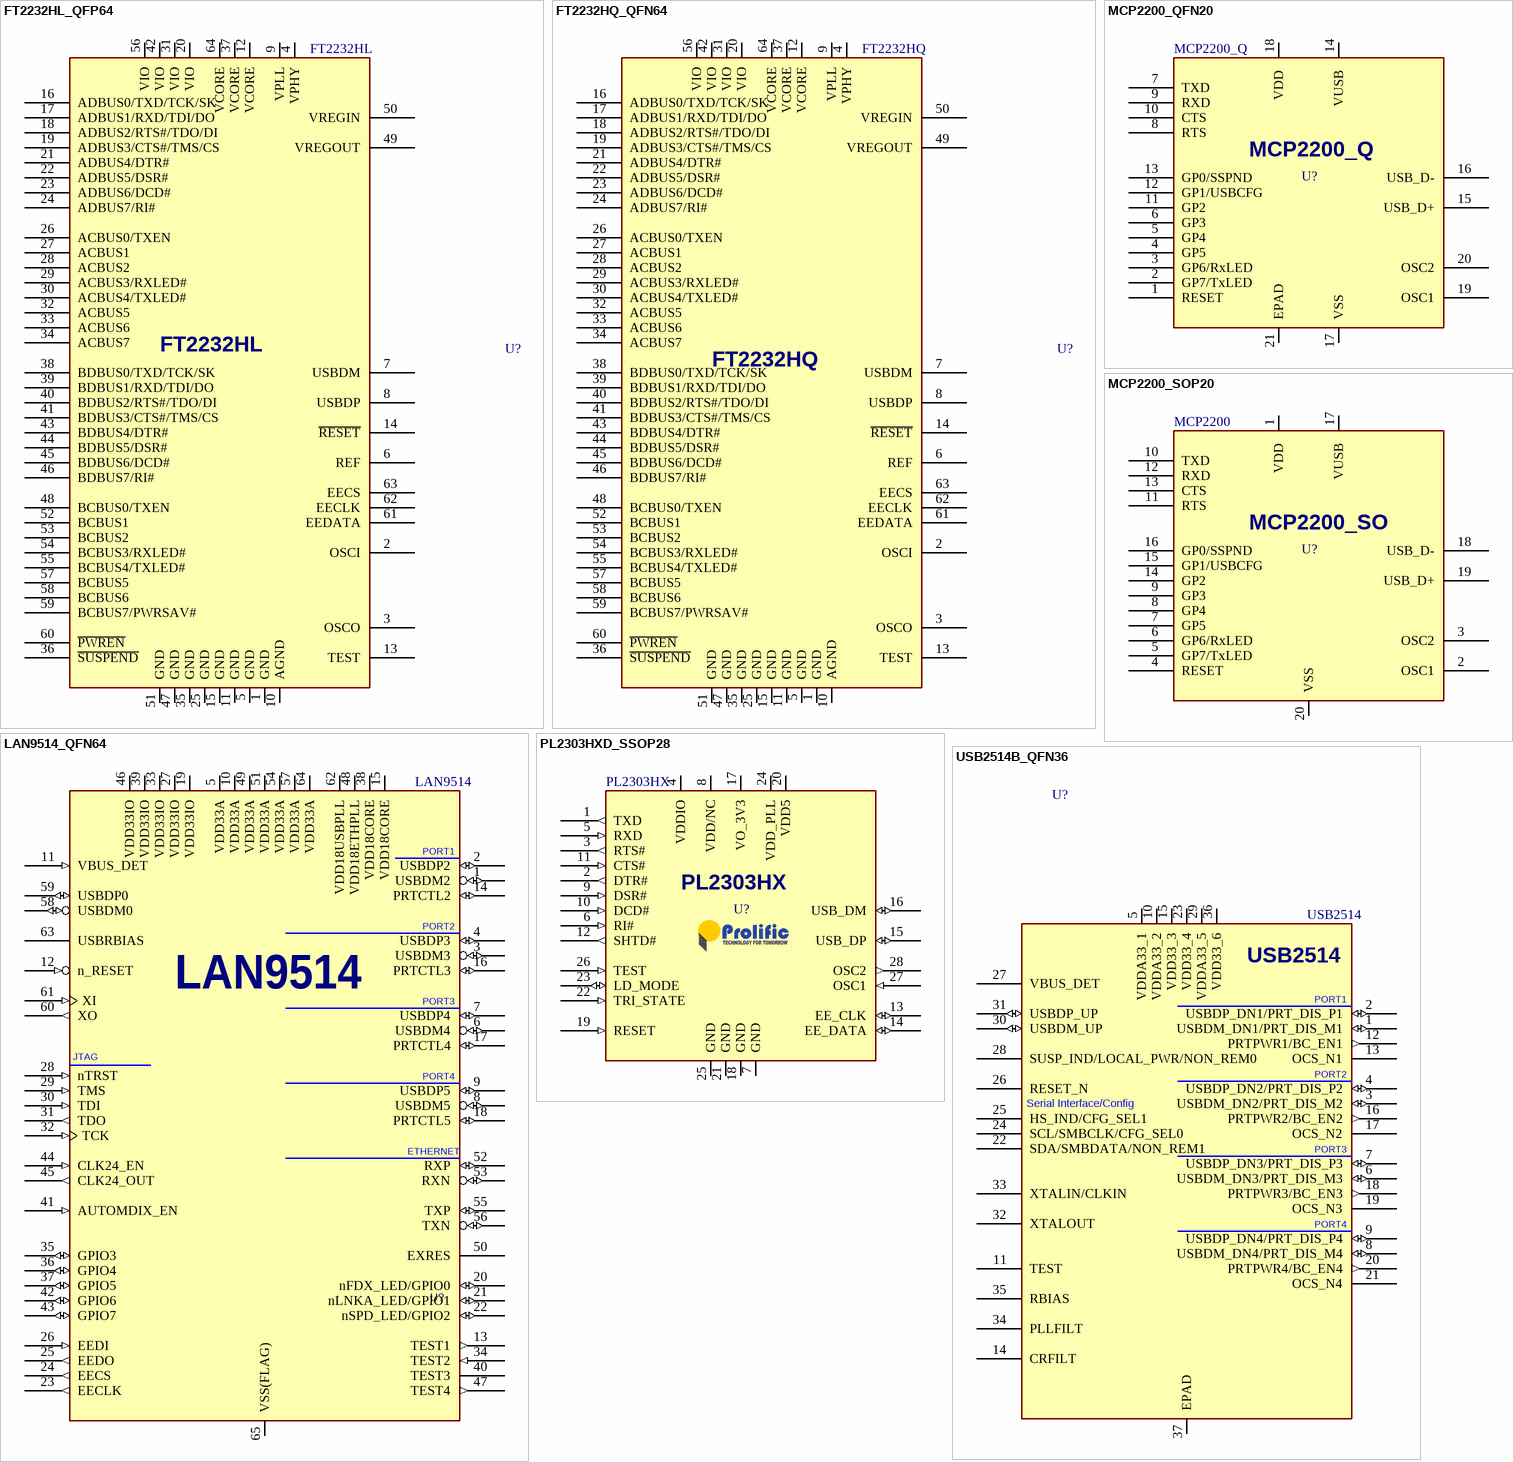
[diagram p4: symbols FT2232HL_QFP64 to USB2514B_QFN36]

## FT2232HL_QFP64
designator U?, comment FT2232HL
USB, DUAL, Multipurpose UART/FIFO, USB High Speed; MANF: FTDI; PARAM2: 3.3V; MANF_P#: FT2232HL; VALUE: FT2232HL
footprint QFG50_64 (A64 (CYPRESS), TQFP64, LQFP64, VQ44, VQG44, 10X10mm, Pitch: 0.5mm)
pins: 1 GND, 2 OSCI, 3 OSCO, 4 VPHY, 5 GND, 6 REF, 7 USBDM, 8 USBDP, 9 VPLL, 10 AGND, 11 GND, 12 VCORE, 13 TEST, 14 ~{RESET}, 15 GND, 16 ADBUS0/TXD/TCK/SK, 17 ADBUS1/RXD/TDI/DO, 18 ADBUS2/RTS#/TDO/DI, 19 ADBUS3/CTS#/TMS/CS, 20 VIO, 21 ADBUS4/DTR#, 22 ADBUS5/DSR#, 23 ADBUS6/DCD#, 24 ADBUS7/RI#, 25 GND, 26 ACBUS0/TXEN, 27 ACBUS1, 28 ACBUS2, 29 ACBUS3/RXLED#, 30 ACBUS4/TXLED#, 31 VIO, 32 ACBUS5, 33 ACBUS6, 34 ACBUS7, 35 GND, 36 ~{SUSPEND}, 37 VCORE, 38 BDBUS0/TXD/TCK/SK, 39 BDBUS1/RXD/TDI/DO, 40 BDBUS2/RTS#/TDO/DI, 41 BDBUS3/CTS#/TMS/CS, 42 VIO, 43 BDBUS4/DTR#, 44 BDBUS5/DSR#, 45 BDBUS6/DCD#, 46 BDBUS7/RI#, 47 GND, 48 BCBUS0/TXEN, 49 VREGOUT, 50 VREGIN, 51 GND, 52 BCBUS1, 53 BCBUS2, 54 BCBUS3/RXLED#, 55 BCBUS4/TXLED#, 56 VIO, 57 BCBUS5, 58 BCBUS6, 59 BCBUS7/PWRSAV#, 60 ~{PWREN}, 61 EEDATA, 62 EECLK, 63 EECS, 64 VCORE
2 alternate drawings of the same symbol

## FT2232HQ_QFN64
designator U?, comment FT2232HQ
USB, DUAL, Multipurpose UART/FIFO, USB High Speed; MANF: FTDI; PARAM2: 3.3V; MANF_P#: FT2232HQ; VALUE: FT2232HQ
footprint QFN50_64FT (Footprint not found)
pins: 1 GND, 2 OSCI, 3 OSCO, 4 VPHY, 5 GND, 6 REF, 7 USBDM, 8 USBDP, 9 VPLL, 10 AGND, 11 GND, 12 VCORE, 13 TEST, 14 ~{RESET}, 15 GND, 16 ADBUS0/TXD/TCK/SK, 17 ADBUS1/RXD/TDI/DO, 18 ADBUS2/RTS#/TDO/DI, 19 ADBUS3/CTS#/TMS/CS, 20 VIO, 21 ADBUS4/DTR#, 22 ADBUS5/DSR#, 23 ADBUS6/DCD#, 24 ADBUS7/RI#, 25 GND, 26 ACBUS0/TXEN, 27 ACBUS1, 28 ACBUS2, 29 ACBUS3/RXLED#, 30 ACBUS4/TXLED#, 31 VIO, 32 ACBUS5, 33 ACBUS6, 34 ACBUS7, 35 GND, 36 ~{SUSPEND}, 37 VCORE, 38 BDBUS0/TXD/TCK/SK, 39 BDBUS1/RXD/TDI/DO, 40 BDBUS2/RTS#/TDO/DI, 41 BDBUS3/CTS#/TMS/CS, 42 VIO, 43 BDBUS4/DTR#, 44 BDBUS5/DSR#, 45 BDBUS6/DCD#, 46 BDBUS7/RI#, 47 GND, 48 BCBUS0/TXEN, 49 VREGOUT, 50 VREGIN, 51 GND, 52 BCBUS1, 53 BCBUS2, 54 BCBUS3/RXLED#, 55 BCBUS4/TXLED#, 56 VIO, 57 BCBUS5, 58 BCBUS6, 59 BCBUS7/PWRSAV#, 60 ~{PWREN}, 61 EEDATA, 62 EECLK, 63 EECS, 64 VCORE
2 alternate drawings of the same symbol

## LAN9514_QFN64
designator U?, comment LAN9514
Ethernet Transceiver, 10/100, MII +USB2.0HUB; MANF: SMSC; MANF_P#: LAN9514i-JZX, LAN9514-JZX; VALUE: LAN9514
footprint QFN50_64T (LFCSP_VQ, MO-220-VMMD-4, MO-220-WNJR-5(JEDEC), RGC S-PQFP-N64 (TI), 9X9mm, 0.5mm)
pins: 1 USBDM2 (io), 2 USBDP2 (io), 3 USBDM3 (io), 4 USBDP3 (io), 5 VDD33A (power), 6 USBDM4 (io), 7 USBDP4 (io), 8 USBDM5 (io), 9 USBDP5 (io), 10 VDD33A (power), 11 VBUS_DET (in), 12 n_RESET (in), 13 TEST1 (out), 14 PRTCTL2 (io), 15 VDD18CORE (power), 16 PRTCTL3 (io), 17 PRTCTL4 (io), 18 PRTCTL5 (io), 19 VDD33IO (power), 20 nFDX_LED/GPIO0 (io), 21 nLNKA_LED/GPIO1 (io), 22 nSPD_LED/GPIO2 (io), 23 EECLK (out), 24 EECS (out), 25 EEDO (out), 26 EEDI (in), 27 VDD33IO (power), 28 nTRST (in), 29 TMS (in), 30 TDI (in), 31 TDO (out), 32 TCK (in), 33 VDD33IO (power), 34 TEST2 (in), 35 GPIO3 (io), 36 GPIO4 (io), 37 GPIO5 (io), 38 VDD18CORE (power), 39 VDD33IO (power), 40 TEST3 (power), 41 AUTOMDIX_EN (in), 42 GPIO6 (io), 43 GPIO7 (io), 44 CLK24_EN (in), 45 CLK24_OUT (out), 46 VDD33IO (power), 47 TEST4 (out), 48 VDD18ETHPLL (power), 49 VDD33A (power), 50 EXRES, 51 VDD33A (power), 52 RXP (io), 53 RXN (io), 54 VDD33A (power), 55 TXP (io), 56 TXN (io), 57 VDD33A (power), 58 USBDM0 (io), 59 USBDP0 (io), 60 XO (out), 61 XI (in), 62 VDD18USBPLL (power), 63 USBRBIAS, 64 VDD33A (power), 65 VSS(FLAG) (power)
text: PORT1; PORT2; PORT3; JTAG; PORT4; ETHERNET

## MCP2200_QFN20
designator U?, comment MCP2200_Q
USB-UART Bridge, QFN-20; MANF: MICROCHIP; MANF_P#: MCP2200-I/MQ; PRICE: 8000t @PAYA or ECA; Value: MCP2200_Q
footprint QFN65_20T (QFN, 20-Leads, Body 5.00x5.00mm, Pitch 0.65mm, Thermal Pad 3.15x3.15mm, MO-220(JEDEC), RGW/S-PVQFN-N20 (TI))
pins: 1 RESET, 2 GP7/TxLED, 3 GP6/RxLED, 4 GP5 (power), 5 GP4, 6 GP3, 7 TXD, 8 RTS, 9 RXD, 10 CTS, 11 GP2 (power), 12 GP1/USBCFG, 13 GP0/SSPND, 14 VUSB , 15 USB_D+ (power), 16 USB_D-, 17 VSS, 18 VDD , 19 OSC1, 20 OSC2, 21 EPAD

## MCP2200_SOP20
designator U?, comment MCP2200
USB-UART Bridge, SOP-20; MANF: MICROCHIP; MANF_P#: MCP2200-I/SO; PRICE: 5000~6000t @PAYA or ECA; Value: MCP2200
footprint SO_20_W
pins: 1 VDD , 2 OSC1, 3 OSC2, 4 RESET, 5 GP7/TxLED, 6 GP6/RxLED, 7 GP5 (power), 8 GP4, 9 GP3, 10 TXD, 11 RTS, 12 RXD, 13 CTS, 14 GP2 (power), 15 GP1/USBCFG, 16 GP0/SSPND, 17 VUSB , 18 USB_D-, 19 USB_D+ (power), 20 VSS
text: MCP2200_SO

## PL2303HXD_SSOP28
designator U?, comment PL2303HX
USB RS232 Bridge Controller, SSOP-28; MANF: Prolific; MANF_P#: PL2303TA, PL2303HX, PL2303HXD, PL2303HXA; PRICE: 4000~6000t @PAYA or ECA; Value: PL2303HX
footprint SOG65_28_W (SOP, 28-Leads, Body 10.6x5.6mm (max), Pitch 0.65mm)
pins: 1 TXD (out), 2 DTR# (out), 3 RTS# (out), 4 VDDIO (power), 5 RXD (in), 6 RI# (in), 7 GND (power), 8 VDD/NC (power), 9 DSR# (in), 10 DCD# (in), 11 CTS# (in), 12 SHTD# (out), 13 EE_CLK (io), 14 EE_DATA (io), 15 USB_DP (io), 16 USB_DM (io), 17 VO_3V3 (power), 18 GND (power), 19 RESET (in), 20 VDD5 (power), 21 GND (power), 22 TRI_STATE (in), 23 LD_MODE (io), 24 VDD_PLL (power), 25 GND (power), 26 TEST (in), 27 OSC1 (in), 28 OSC2 (out)

## USB2514B_QFN36
designator U?, comment USB2514
USB 2.0 Hub Controller, QFN36; MANF: Microchip/SMSC; MANF_P#: USB2514BI-AEZG; PARAM2: 3~3.6V, 85mA; PARAM: USB 2.0 Hub Controller; PRICE: 1=3.78, 10=3.26, 25=2.72, 100=2.47 (USD); VALUE: USB2514
footprint QFN50_36T (MO-220-VJJD (JEDEC), 36 TQFN T3666+3 (MAXIM), 6X6mm, 0.5mm)
pins: 1 USBDM_DN1/PRT_DIS_M1 (io), 2 USBDP_DN1/PRT_DIS_P1 (io), 3 USBDM_DN2/PRT_DIS_M2 (io), 4 USBDP_DN2/PRT_DIS_P2 (io), 5 VDDA33_1, 6 USBDM_DN3/PRT_DIS_M3 (io), 7 USBDP_DN3/PRT_DIS_P3 (io), 8 USBDM_DN4/PRT_DIS_M4 (io), 9 USBDP_DN4/PRT_DIS_P4 (io), 10 VDDA33_2, 11 TEST, 12 PRTPWR1/BC_EN1 (out), 13 OCS_N1, 14 CRFILT, 15 VDD33_3, 16 PRTPWR2/BC_EN2 (out), 17 OCS_N2, 18 PRTPWR3/BC_EN3 (out), 19 OCS_N3, 20 PRTPWR4/BC_EN4 (out), 21 OCS_N4, 22 SDA/SMBDATA/NON_REM1, 23 VDD33_4, 24 SCL/SMBCLK/CFG_SEL0, 25 HS_IND/CFG_SEL1, 26 RESET_N, 27 VBUS_DET, 28 SUSP_IND/LOCAL_PWR/NON_REM0, 29 VDDA33_5, 30 USBDM_UP (io), 31 USBDP_UP (io), 32 XTALOUT, 33 XTALIN/CLKIN, 34 PLLFILT, 35 RBIAS, 36 VDD33_6, 37 EPAD
text: PORT1; PORT2; Serial Interface/Config; PORT3; PORT4

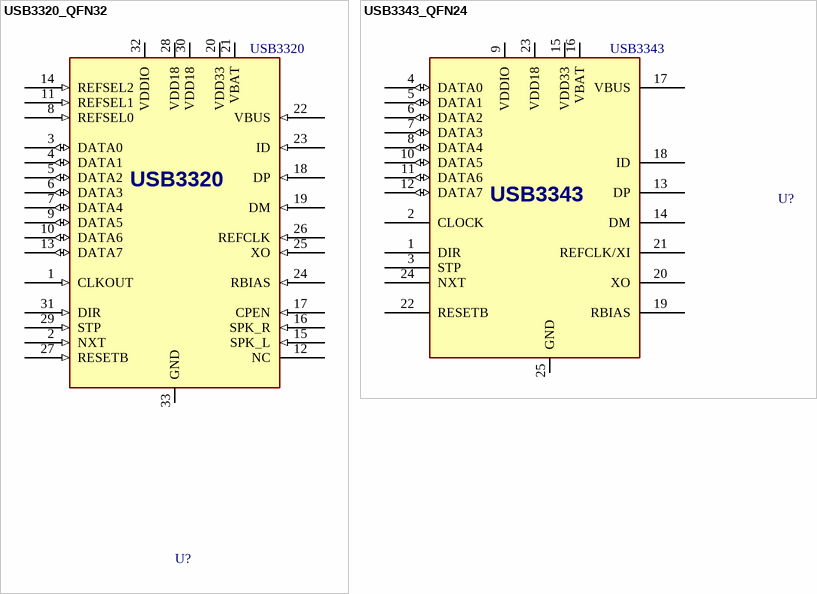
[diagram p5: symbols USB3320_QFN32 to USB3343_QFN24]

## USB3320_QFN32
designator U?, comment USB3320
USB 2.0 ULPI Transceiver; MANF: SMSC; MANF_P#: USB3320; VALUE: USB3320
footprint QFN50_32T (QFN, 32, 5X5mm, 0.5mm)
pins: 1 CLKOUT (in), 2 NXT (in), 3 DATA0 (io), 4 DATA1 (io), 5 DATA2 (io), 6 DATA3 (io), 7 DATA4 (io), 8 REFSEL0 (in), 9 DATA5 (io), 10 DATA6 (io), 11 REFSEL1 (in), 12 NC, 13 DATA7 (io), 14 REFSEL2 (in), 15 SPK_L (in), 16 SPK_R (in), 17 CPEN (in), 18 DP (in), 19 DM (in), 20 VDD33, 21 VBAT, 22 VBUS (in), 23 ID (in), 24 RBIAS (in), 25 XO (in), 26 REFCLK (in), 27 RESETB (in), 28 VDD18, 29 STP (in), 30 VDD18, 31 DIR (in), 32 VDDIO, 33 GND

## USB3343_QFN24
designator U?, comment USB3343
USB 2.0 ULPI Transceiver, Single Supply; MANF_P#: USB3343-CP-TR; MANF: SMSC; PARAM2: 1.8~3.3V depending on 1.8~3.3VIO; VALUE: USB3343
footprint QFN50_24T (MO-220 (JEDEC), RGE S-PQFP-N24 (TI), 4X4mm, 0.5mm, HVQFN24)
pins: 1 DIR, 2 CLOCK, 3 STP, 4 DATA0 (io), 5 DATA1 (io), 6 DATA2 (io), 7 DATA3 (io), 8 DATA4 (io), 9 VDDIO (power), 10 DATA5 (io), 11 DATA6 (io), 12 DATA7 (io), 13 DP, 14 DM, 15 VDD33 (power), 16 VBAT, 17 VBUS, 18 ID, 19 RBIAS, 20 XO, 21 REFCLK/XI, 22 RESETB, 23 VDD18 (power), 24 NXT, 25 GND (power)